# EAGLE library part DAC-MCP4706 (library Ava)
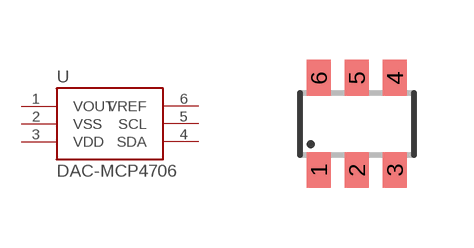
[diagram p20: symbol with the pads of SOT23-6; footprint SOT23-6]

Designator prefix -

## DAC-MCP4706  [SOT23-6]
1  VOUT
2  VSS
3  VDD
4  SDA
5  SCL
6  VREF

## Footprint SOT23-6 (pad centres in mm)
smd 0.6 x 0.9: 1 -0.95,-1.15; 2 0,-1.15; 3 0.95,-1.15; 4 0.95,1.15; 5 0,1.15; 6 -0.95,1.15